# Altium integrated library nRF24AP2 Asynchronous.IntLib: 6 symbols
Pins are listed as number, name and electrical type; pins without a type are passive.

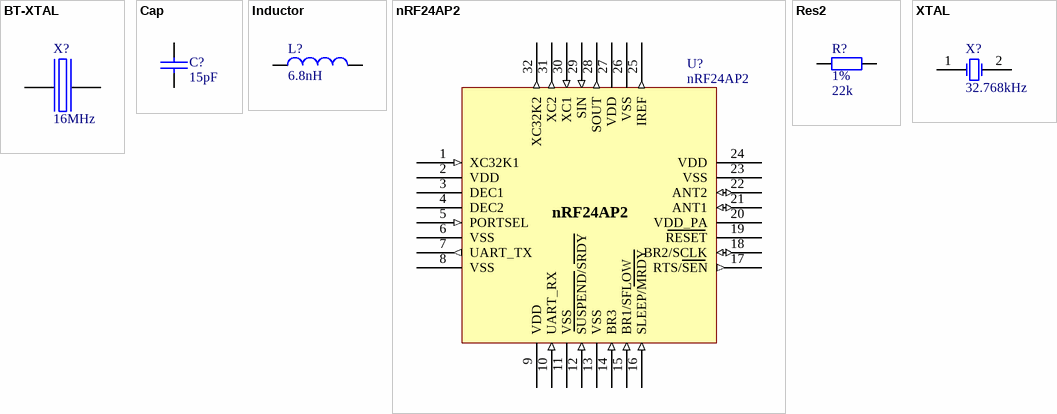
[diagram p0: symbols BT-XTAL to XTAL]

## BT-XTAL
designator X?, comment value 16MHz  (hidden comment: 16MHz, Cl=9pF, +/-10ppm)
Crystal
footprint bt-xtal 3225 (Mercury X32 series)
pins: 1 inp, 2 GND hidden to GND, 3 out, 4 GND hidden to GND

## Cap
designator C?, comment value 15pF  (hidden comment: NP0 50V)
Capacitor; Part Field 1: 0402
footprint 0402s
pins: 1, 2

## Inductor
designator L?, comment value 6.8nH  (hidden comment: Murata LQP15MN6N8B02D)
Inductor; Code_IEC: 1005; Published: 8-Jun-2000; LatestRevisionDate: 17-Jul-2002; LatestRevisionNote: Re-released for DXP Platform.; PackageReference: 0402-A; Publisher: Altium Limited; Code_JEITA: 0402
footprint 0402s
footprint L0603 (Chip Inductor; Body 1.6 x 0.8 mm (LxW typ))
footprint 2012_Chip (2012 Chip; Chip Inductor; Body 2.0 x 1.2 mm (LxW typ))
footprint 2029 (Chip Inductor; Body 2 x 1.2 mm (LxW typ))
footprint 3261 (3216 Chip; Chip Inductor; Body 3.2 x 1.6 mm (LxW typ))
footprint 4564_Chip (4564 Chip; Chip Inductor; Body 4.5 x 6.4 mm (LxW typ))
simulation model INDUCTOR (Inductor)
signal-integrity model Inductor
pins: 1, 2

## nRF24AP2
designator U?
footprint Nordic_QFN50P500X500X90-33N (QFN32 5x5x0.85mm, 0.5mm pitch - Medium Density)
pins: 1 XC32K1 (in), 2 VDD (power), 3 DEC1 (power), 4 DEC2 (power), 5 PORTSEL (in), 6 VSS (power), 7 UART_TX (out), 8 VSS (power), 9 VDD (power), 10 UART_RX (in), 11 VSS (power), 12 SUSPEND/SRDY (in), 13 VSS (power), 14 BR3 (in), 15 BR1/SFLOW (in), 16 SLEEP/MRDY (in), 17 RTS/SEN (out), 18 BR2/SCLK (io), 19 RESET, 20 VDD_PA (power), 21 ANT1 (io), 22 ANT2 (io), 23 VSS (power), 24 VDD (power), 25 IREF (out), 26 VSS (power), 27 VDD (power), 28 SOUT (out), 29 SIN (in), 30 XC1 (in), 31 XC2 (out), 32 XC32K2 (out), 33 GND (power) hidden to GND

## Res2
designator R?, comment 1%  value 22k
Resistor; Published: 8-Jun-2000; LatestRevisionDate: 17-Jul-2002; LatestRevisionNote: Re-released for DXP Platform.; PackageReference: AXIAL-0.4; Publisher: Altium Limited
footprint 0402s
simulation model RESISTOR (Resistor)
signal-integrity model Res
pins: 1, 2

## XTAL
designator X?, comment value 32.768kHz  (hidden comment: MC-146, 32.768kHz, Cl=9pF, +/-50ppm)
Crystal Oscillator; Published: 8-Jun-2000; LatestRevisionDate: 17-Jul-2002; LatestRevisionNote: Re-released for DXP Platform.; PackageReference: R38; Publisher: Altium Limited
footprint MC-146 (32.768kHz crystal); pin to pad 2>3
simulation model XTAL (Spice Subcircuit)
pins: 1 OSC1, 2 OSC2